# EAGLE library part TXM-900-HP3-PPO (library rfc)
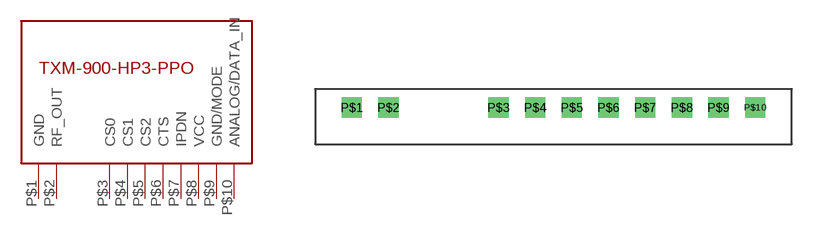
[diagram p0: symbol with the pads of SIP-10; footprint SIP-10]

Designator prefix -

## TXM-900-HP3-PPO  [SIP-10]
P$1  GND
P$2  RF_OUT
P$3  CS0
P$4  CS1
P$5  CS2
P$6  CTS
P$7  IPDN
P$8  VCC
P$9  GND/MODE
P$10  ANALOG/DATA_IN

## Footprint SIP-10 (pad centres in mm)
drill 0.9 square: P$1 2.54,0; P$2 5.08,0; P$3 12.7,0; P$4 15.24,0; P$5 17.78,0; P$6 20.32,0; P$7 22.86,0; P$8 25.4,0; P$9 27.94,0; P$10 30.48,0